# EAGLE library part STM8S105C6T6 (library masterkit)
STM8S microcontroller LQFP 48
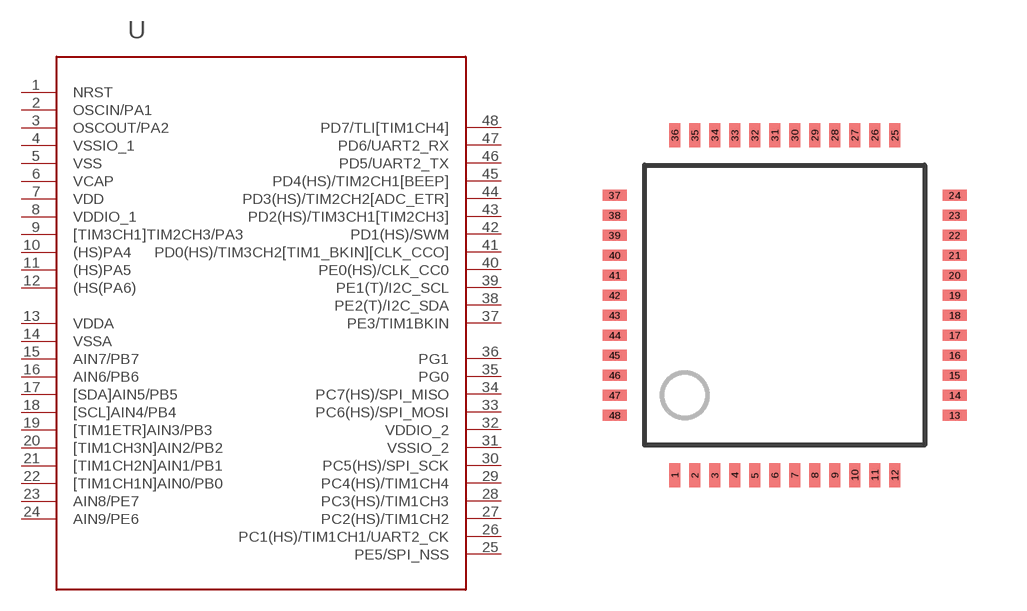
[diagram p1: symbol with the pads of LQFP48; footprint LQFP48]

Designator prefix -

## STM8S105C6T6  [LQFP48]
1  NRST
2  OSCIN/PA1
3  OSCOUT/PA2
4  VSSIO_1
5  VSS
6  VCAP
7  VDD
8  VDDIO_1
9  [TIM3CH1]TIM2CH3/PA3
10  (HS)PA4
11  (HS)PA5
12  (HS(PA6)
13  VDDA
14  VSSA
15  AIN7/PB7
16  AIN6/PB6
17  [SDA]AIN5/PB5
18  [SCL]AIN4/PB4
19  [TIM1ETR]AIN3/PB3
20  [TIM1CH3N]AIN2/PB2
21  [TIM1CH2N]AIN1/PB1
22  [TIM1CH1N]AIN0/PB0
23  AIN8/PE7
24  AIN9/PE6
25  PE5/SPI_NSS
26  PC1(HS)/TIM1CH1/UART2_CK
27  PC2(HS)/TIM1CH2
28  PC3(HS)/TIM1CH3
29  PC4(HS)/TIM1CH4
30  PC5(HS)/SPI_SCK
31  VSSIO_2
32  VDDIO_2
33  PC6(HS)/SPI_MOSI
34  PC7(HS)/SPI_MISO
35  PG0
36  PG1
37  PE3/TIM1BKIN
38  PE2(T)/I2C_SDA
39  PE1(T)/I2C_SCL
40  PE0(HS)/CLK_CC0
41  PD0(HS)/TIM3CH2[TIM1_BKIN][CLK_CCO]
42  PD1(HS)/SWM
43  PD2(HS)/TIM3CH1[TIM2CH3]
44  PD3(HS)/TIM2CH2[ADC_ETR]
45  PD4(HS)/TIM2CH1[BEEP]
46  PD5/UART2_TX
47  PD6/UART2_RX
48  PD7/TLI[TIM1CH4]

## Footprint LQFP48 (pad centres in mm)
smd 0.27 x 0.61: 1 -2.75,-4.25; 2 -2.25,-4.25; 3 -1.75,-4.25; 4 -1.25,-4.25; 5 -0.75,-4.25; 6 -0.25,-4.25; 7 0.25,-4.25; 8 0.75,-4.25; 9 1.25,-4.25; 10 1.75,-4.25; 11 2.25,-4.25; 12 2.75,-4.25; 25 2.75,4.25; 26 2.25,4.25; 27 1.75,4.25; 28 1.25,4.25; 29 0.75,4.25; 30 0.25,4.25; 31 -0.25,4.25; 32 -0.75,4.25; 33 -1.25,4.25; 34 -1.75,4.25; 35 -2.25,4.25; 36 -2.75,4.25
smd 0.61 x 0.27: 13 4.25,-2.75; 14 4.25,-2.25; 15 4.25,-1.75; 16 4.25,-1.25; 17 4.25,-0.75; 18 4.25,-0.25; 19 4.25,0.25; 20 4.25,0.75; 21 4.25,1.25; 22 4.25,1.75; 23 4.25,2.25; 24 4.25,2.75; 37 -4.25,2.75; 38 -4.25,2.25; 39 -4.25,1.75; 40 -4.25,1.25; 41 -4.25,0.75; 42 -4.25,0.25; 43 -4.25,-0.25; 44 -4.25,-0.75; 45 -4.25,-1.25; 46 -4.25,-1.75; 47 -4.25,-2.25; 48 -4.25,-2.75